# Altium footprint library MRF24J40MDT-I_RM.PcbLib: 1 footprints
Each footprint in its own frame and in the unit in brackets; x right, y up, seen from the top. Pads: shape width x height; smd on the part's side, far side on the other; paste and mask are expansions set on the pad; w line width, h text height; cw(c..) or ccw(c..) is an arc to the next point about the centre after c.
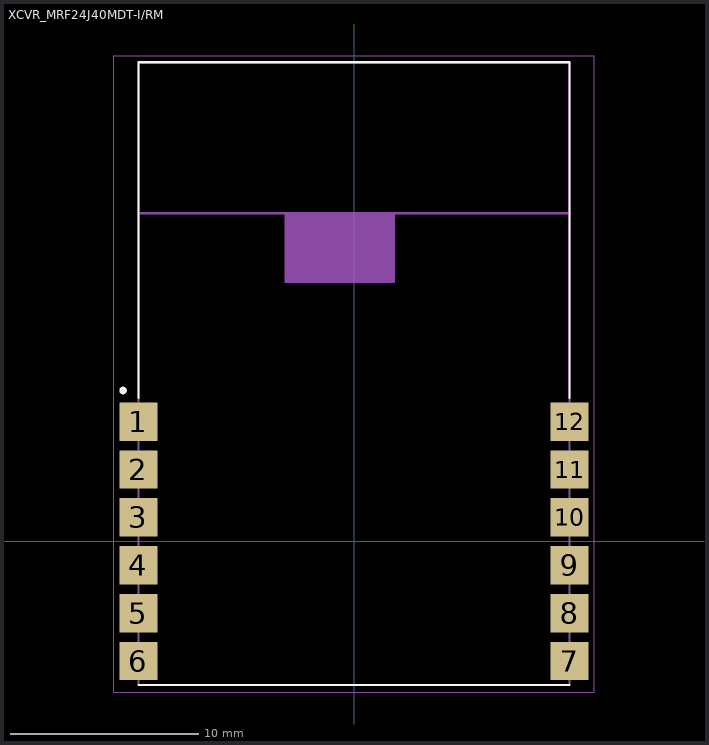
[diagram p0: the footprint, top view; thin cyan lines are the x and y axes]

## XCVR_MRF24J40MDT-I/RM [mil]
pads (12):
  rect 80x80 smd: 1(-450,250) 2(-450,150) 3(-450,50) 4(-450,-50) 5(-450,-150) 6(-450,-250) 7(450,-250) 8(450,-150) 9(450,-50) 10(450,50) 11(450,150) 12(450,250)
Top Overlay:
  circle w7.87: c-482.28,314.96 r3.94
  lines w5: -450,-300 450,-300 ; -450,300 -450,1000 450,1000 450,300
Mechanical 1:
  region: -145.1,685 85,685 85,540.36 -145.1,540.36
  region: -145.04,685 85,685 85,540.13 -145.04,540.13
  region: -145.06,685 85,685 85,540.24 -145.06,540.24
  lines w1.97: -501.97,-314.96 -501.97,1013.78 501.97,1013.78 501.97,-314.96 -501.97,-314.96
  lines w5: -450,685 450,685 ; -450,685 -450,1000 450,1000 450,685 ; -450,685 -450,-300 450,-300 450,685
  text "PCB EDGE" at -440.56,640.99 h73.82